# Altium schematic symbol library WE-PoEH.SchLib: 13 symbols
Pins are listed as number, name and electrical type; pins without a type are passive.

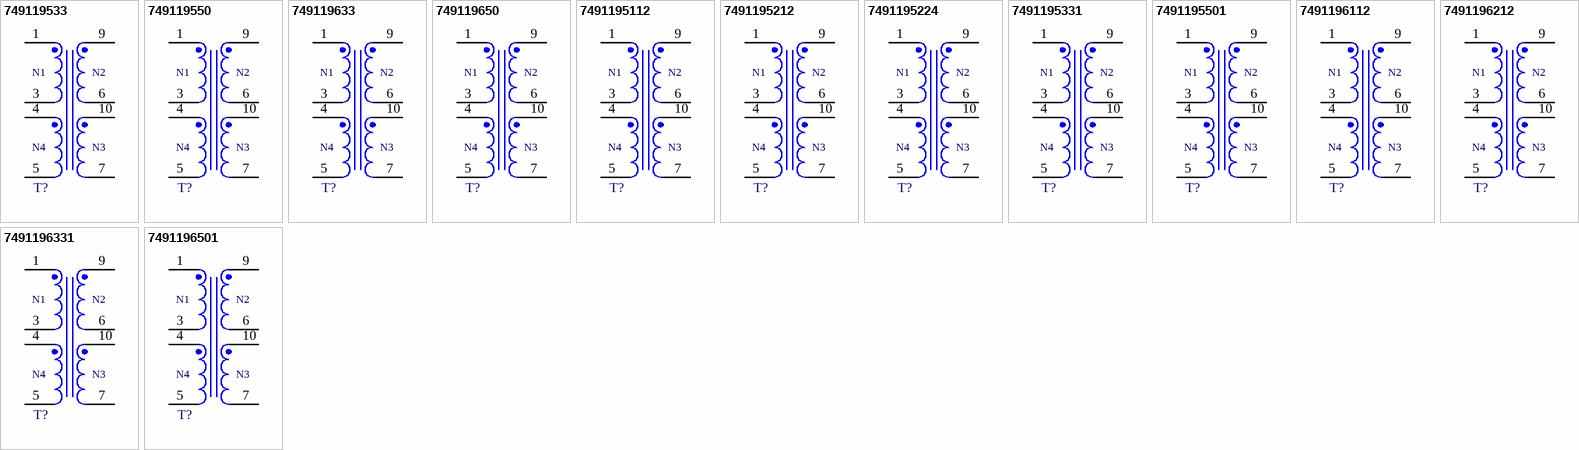
[diagram p0: symbols 749119533 to 7491196501]

## 749119533
designator T?, comment Ui = 33-57V, Uo1 = 3.3V/3.5A, Uo2 = 3.3V/3.5A  (value not drawn)
WE-PoEH Power over Ethernet High Power Transformer, SMT, EPQ13, Ui = 33-57V, Uo1 = 3.3V/3.5A, Uo2 = 3.3V/3.5A; Manufacturer Part Number: 749119533; Manufacturer: Wurth Elektronik; Auxiliary Voltage: 10V; Inductance: 54uH; Input Voltage: 33-57VDC; Insulation Test Voltage: 1500V; Leakage Inductance: 0.8uH; Output Current 1: 3.5A; Output Power: 23.1W; Output Voltage 1: 3.3V; Saturation Current: 3.2A; Switching Frequency: 200-400kHz; Turns Ratio: 8:1:1:3; Type: Flyback; Category: Transformers For DC-DC Converter; Match Code: WE-PoEH; ComponentLink1Description: Website Link; ComponentLink1URL: https://www.we-online.com/redexpert/article/749119533?ad; ComponentLink2Description: Datasheet Link; ComponentLink2URL: https://www.we-online.com/redexpert/spec/749119533?ad; Mount: Surface Mount; Operating Temperature Max: 125°C; Operating Temperature Min: -40°C; Packaging: Tape and Reel; Case/Size Code: EPQ13; Length: 14mm; Width: 12.77mm; Height: 14.5mm; Output Current 2: 3.5A; Output Voltage 2: 3.3V
footprint WE-PoEH_EPQ13
simulation model 749119533
pins: 1, 3, 4, 5, 6, 7, 9, 10
text: N1; N2; N4; N3

## 749119550
designator T?, comment Ui = 33-57V, Uo1 = 5V/3A, Uo2 = 5V/3A  (value not drawn)
WE-PoEH Power over Ethernet High Power Transformer, SMT, EPQ13, Ui = 33-57V, Uo1 = 5V/3A, Uo2 = 5V/3A; Manufacturer Part Number: 749119550; Manufacturer: Wurth Elektronik; Auxiliary Voltage: 10V; Inductance: 48uH; Input Voltage: 33-57VDC; Insulation Test Voltage: 1500V; Leakage Inductance: 0.7uH; Output Current 1: 3A; Output Power: 30W; Output Voltage 1: 5V; Saturation Current: 3.6A; Switching Frequency: 200-400kHz; Turns Ratio: 5.33:1:1:2; Type: Flyback; Category: Transformers For DC-DC Converter; Match Code: WE-PoEH; ComponentLink1Description: Website Link; ComponentLink1URL: https://www.we-online.com/redexpert/article/749119550?ad; ComponentLink2Description: Datasheet Link; ComponentLink2URL: https://www.we-online.com/redexpert/spec/749119550?ad; Mount: Surface Mount; Operating Temperature Max: 125°C; Operating Temperature Min: -40°C; Packaging: Tape and Reel; Case/Size Code: EPQ13; Length: 14mm; Width: 12.77mm; Height: 14.5mm; Output Current 2: 3A; Output Voltage 2: 5V
footprint WE-PoEH_EPQ13
simulation model 749119550
pins: 1, 3, 4, 5, 6, 7, 9, 10
text: N1; N2; N4; N3

## 749119633
designator T?, comment Ui = 33-57V, Uo1 = 3.3V/8A, Uo2 = 3.3V/8A  (value not drawn)
WE-PoEH Power over Ethernet High Power Transformer, SMT, EPQ13, Ui = 33-57V, Uo1 = 3.3V/8A, Uo2 = 3.3V/8A; Manufacturer Part Number: 749119633; Manufacturer: Wurth Elektronik; Auxiliary Voltage: 10V; Inductance: 100uH; Input Voltage: 33-57VDC; Insulation Test Voltage: 1500V; Leakage Inductance: 0.5uH; Output Current 1: 8A; Output Power: 52.8W; Output Voltage 1: 3.3V; Saturation Current: 1A; Switching Frequency: 200-400kHz; Turns Ratio: 6:1:1:3; Type: Forward; Category: Transformers For DC-DC Converter; Match Code: WE-PoEH; ComponentLink1Description: Website Link; ComponentLink1URL: https://www.we-online.com/redexpert/article/749119633?ad; ComponentLink2Description: Datasheet Link; ComponentLink2URL: https://www.we-online.com/redexpert/spec/749119633?ad; Mount: Surface Mount; Operating Temperature Max: 125°C; Operating Temperature Min: -40°C; Packaging: Tape and Reel; Case/Size Code: EPQ13; Length: 14mm; Width: 12.77mm; Height: 14.5mm; Output Current 2: 8A; Output Voltage 2: 3.3V
footprint WE-PoEH_EPQ13
simulation model 749119633
pins: 1, 3, 4, 5, 6, 7, 9, 10
text: N1; N2; N4; N3

## 749119650
designator T?, comment Ui = 33-57V, Uo1 = 5V/7A, Uo2 = 5V/7A  (value not drawn)
WE-PoEH Power over Ethernet High Power Transformer, SMT, EPQ13, Ui = 33-57V, Uo1 = 5V/7A, Uo2 = 5V/7A; Manufacturer Part Number: 749119650; Manufacturer: Wurth Elektronik; Auxiliary Voltage: 10V; Inductance: 100uH; Input Voltage: 33-57VDC; Insulation Test Voltage: 1500V; Leakage Inductance: 0.5uH; Output Current 1: 7A; Output Power: 70W; Output Voltage 1: 5V; Saturation Current: 1A; Switching Frequency: 200-400kHz; Turns Ratio: 4:1:1:2; Type: Forward; Category: Transformers For DC-DC Converter; Match Code: WE-PoEH; ComponentLink1Description: Website Link; ComponentLink1URL: https://www.we-online.com/redexpert/article/749119650?ad; ComponentLink2Description: Datasheet Link; ComponentLink2URL: https://www.we-online.com/redexpert/spec/749119650?ad; Mount: Surface Mount; Operating Temperature Max: 125°C; Operating Temperature Min: -40°C; Packaging: Tape and Reel; Case/Size Code: EPQ13; Length: 14mm; Width: 12.77mm; Height: 14.5mm; Output Current 2: 7A; Output Voltage 2: 5V
footprint WE-PoEH_EPQ13
simulation model 749119650
pins: 1, 3, 4, 5, 6, 7, 9, 10
text: N1; N2; N4; N3

## 7491195112
designator T?, comment Ui = 33-57V, Uo1 = 12V/1.5A, Uo2 = 12V/1.5A  (value not drawn)
WE-PoEH Power over Ethernet High Power Transformer, SMT, EPQ13, Ui = 33-57V, Uo1 = 12V/1.5A, Uo2 = 12V/1.5A; Manufacturer Part Number: 7491195112; Manufacturer: Wurth Elektronik; Auxiliary Voltage: 12V; Inductance: 41uH; Input Voltage: 33-57VDC; Insulation Test Voltage: 1500V; Leakage Inductance: 0.5uH; Output Current 1: 1.5A; Output Power: 36W; Saturation Current: 4.2A; Switching Frequency: 200-400kHz; Turns Ratio: 2.67:1:1:1; Type: Flyback; Category: Transformers For DC-DC Converter; Match Code: WE-PoEH; ComponentLink1Description: Website Link; ComponentLink1URL: https://www.we-online.com/redexpert/article/7491195112?ad; ComponentLink2Description: Datasheet Link; ComponentLink2URL: https://www.we-online.com/redexpert/spec/7491195112?ad; Mount: Surface Mount; Operating Temperature Max: 125°C; Operating Temperature Min: -40°C; Packaging: Tape and Reel; Case/Size Code: EPQ13; Length: 14mm; Width: 12.77mm; Height: 14.5mm; Output Current 2: 1.5A; Output Voltage 1: 12V; Output Voltage 2: 12V
footprint WE-PoEH_EPQ13
simulation model 7491195112
pins: 1, 3, 4, 5, 6, 7, 9, 10
text: N1; N2; N4; N3

## 7491195212
designator T?, comment Ui = 9-57V, Uo1 = 12V/1A, Uo2 = 12V/1A  (value not drawn)
WE-PoEH Power over Ethernet High Power Transformer, SMT, EPQ13, Ui = 9-57V, Uo1 = 12V/1A, Uo2 = 12V/1A; Manufacturer Part Number: 7491195212; Manufacturer: Wurth Elektronik; Auxiliary Voltage: 10V; Inductance: 21uH; Input Voltage: 9-57VDC; Insulation Test Voltage: 1500V; Leakage Inductance: 0.3uH; Output Current 1: 1A; Output Power: 24W; Output Voltage 1: 12V; Saturation Current: 6.3A; Switching Frequency: 200-400kHz; Turns Ratio: 1.33:1:1:0.89; Type: Flyback; Category: Transformers For DC-DC Converter; Match Code: WE-PoEH; ComponentLink1Description: Website Link; ComponentLink1URL: https://www.we-online.com/redexpert/article/7491195212?ad; ComponentLink2Description: Datasheet Link; ComponentLink2URL: https://www.we-online.com/redexpert/spec/7491195212?ad; Mount: Surface Mount; Operating Temperature Max: 125°C; Operating Temperature Min: -40°C; Packaging: Tape and Reel; Case/Size Code: EPQ13; Length: 14mm; Width: 12.77mm; Height: 14.5mm; Output Current 2: 1A; Output Voltage 2: 12V
footprint WE-PoEH_EPQ13
simulation model 7491195212
pins: 1, 3, 4, 5, 6, 7, 9, 10
text: N1; N2; N4; N3

## 7491195224
designator T?, comment Ui = 9-57V, Uo1 = 24V/0.5A, Uo2 = 24V/0.5A  (value not drawn)
WE-PoEH Power over Ethernet High Power Transformer, SMT, EPQ13, Ui = 9-57V, Uo1 = 24V/0.5A, Uo2 = 24V/0.5A; Manufacturer Part Number: 7491195224; Manufacturer: Wurth Elektronik; Auxiliary Voltage: 10V; Inductance: 21uH; Input Voltage: 9-57VDC; Insulation Test Voltage: 1500V; Leakage Inductance: 1uH; Output Current 1: 0.5A; Output Power: 24W; Output Voltage 1: 24V; Saturation Current: 6.4A; Switching Frequency: 200-400kHz; Turns Ratio: 6:9:9:4; Type: Flyback; Category: Transformers For DC-DC Converter; Match Code: WE-PoEH; ComponentLink1Description: Website Link; ComponentLink1URL: https://www.we-online.com/redexpert/article/7491195224?ad; ComponentLink2Description: Datasheet Link; ComponentLink2URL: https://www.we-online.com/redexpert/spec/7491195224?ad; Mount: Surface Mount; Operating Temperature Max: 125°C; Operating Temperature Min: -40°C; Packaging: Tape and Reel; Case/Size Code: EPQ13; Length: 14mm; Width: 12.77mm; Height: 14.5mm; Output Current 2: 0.5A; Output Voltage 2: 24V
footprint WE-PoEH_EPQ13
simulation model 7491195224
pins: 1, 3, 4, 5, 6, 7, 9, 10
text: N1; N2; N4; N3

## 7491195331
designator T?, comment Ui = 9-57V, Uo1 = 3.3V/3.2A, Uo2 = 3.3V/3.2A  (value not drawn)
WE-PoEH Power over Ethernet High Power Transformer, SMT, EPQ13, Ui = 9-57V, Uo1 = 3.3V/3.2A, Uo2 = 3.3V/3.2A; Manufacturer Part Number: 7491195331; Manufacturer: Wurth Elektronik; Auxiliary Voltage: 10V; Inductance: 21uH; Input Voltage: 9-57VDC; Insulation Test Voltage: 1500V; Leakage Inductance: 0.3uH; Output Current 1: 3.2A; Output Power: 21.1W; Output Voltage 1: 3.3V; Saturation Current: 6.2A; Switching Frequency: 200-400kHz; Turns Ratio: 4:1:1:3; Type: Flyback; Category: Transformers For DC-DC Converter; Match Code: WE-PoEH; ComponentLink1Description: Website Link; ComponentLink1URL: https://www.we-online.com/redexpert/article/7491195331?ad; ComponentLink2Description: Datasheet Link; ComponentLink2URL: https://www.we-online.com/redexpert/spec/7491195331?ad; Mount: Surface Mount; Operating Temperature Max: 125°C; Operating Temperature Min: -40°C; Packaging: Tape and Reel; Case/Size Code: EPQ13; Length: 14mm; Width: 12.77mm; Height: 14.5mm; Output Current 2: 3.2A; Output Voltage 2: 3.3V
footprint WE-PoEH_EPQ13
simulation model 7491195331
pins: 1, 3, 4, 5, 6, 7, 9, 10
text: N1; N2; N4; N3

## 7491195501
designator T?, comment Ui = 9-57V, Uo1 = 5V/2.2A, Uo2 = 5V/2.2A  (value not drawn)
WE-PoEH Power over Ethernet High Power Transformer, SMT, EPQ13, Ui = 9-57V, Uo1 = 5V/2.2A, Uo2 = 5V/2.2A; Manufacturer Part Number: 7491195501; Manufacturer: Wurth Elektronik; Auxiliary Voltage: 10V; Inductance: 21uH; Input Voltage: 9-57VDC; Insulation Test Voltage: 1500V; Leakage Inductance: 0.3uH; Output Current 1: 2.2A; Output Power: 22W; Output Voltage 1: 5V; Saturation Current: 6.2A; Switching Frequency: 200-400kHz; Turns Ratio: 3:1:1:2; Type: Flyback; Category: Transformers For DC-DC Converter; Match Code: WE-PoEH; ComponentLink1Description: Website Link; ComponentLink1URL: https://www.we-online.com/redexpert/article/7491195501?ad; ComponentLink2Description: Datasheet Link; ComponentLink2URL: https://www.we-online.com/redexpert/spec/7491195501?ad; Mount: Surface Mount; Operating Temperature Max: 125°C; Operating Temperature Min: -40°C; Packaging: Tape and Reel; Case/Size Code: EPQ13; Length: 14mm; Width: 12.77mm; Height: 14.5mm; Output Current 2: 2.2A; Output Voltage 2: 5V
footprint WE-PoEH_EPQ13
simulation model 7491195501
pins: 1, 3, 4, 5, 6, 7, 9, 10
text: N1; N2; N4; N3

## 7491196112
designator T?, comment Ui = 33-57V, Uo1 = 12V/2.5A, Uo2 = 12V/2.5A  (value not drawn)
WE-PoEH Power over Ethernet High Power Transformer, SMT, EPQ13, Ui = 33-57V, Uo1 = 12V/2.5A, Uo2 = 12V/2.5A; Manufacturer Part Number: 7491196112; Manufacturer: Wurth Elektronik; Auxiliary Voltage: 10V; Inductance: 100uH; Input Voltage: 33-57VDC; Insulation Test Voltage: 1500V; Leakage Inductance: 0.5uH; Output Current 1: 2.5A; Output Power: 60W; Output Voltage 1: 12V; Saturation Current: 1A; Switching Frequency: 200-400kHz; Turns Ratio: 1.71:1:1:0.86; Type: Forward; Category: Transformers For DC-DC Converter; Match Code: WE-PoEH; ComponentLink1Description: Website Link; ComponentLink1URL: https://www.we-online.com/redexpert/article/7491196112?ad; ComponentLink2Description: Datasheet Link; ComponentLink2URL: https://www.we-online.com/redexpert/spec/7491196112?ad; Mount: Surface Mount; Operating Temperature Max: 125°C; Operating Temperature Min: -40°C; Packaging: Tape and Reel; Case/Size Code: EPQ13; Length: 14mm; Width: 12.77mm; Height: 14.5mm; Output Current 2: 2.5A; Output Voltage 2: 12V
footprint WE-PoEH_EPQ13
simulation model 7491196112
pins: 1, 3, 4, 5, 6, 7, 9, 10
text: N1; N2; N4; N3

## 7491196212
designator T?, comment Ui = 9-57V, Uo1 = 12V/1.6A, Uo2 = 12V/1.6A  (value not drawn)
WE-PoEH Power over Ethernet High Power Transformer, SMT, EPQ13, Ui = 9-57V, Uo1 = 12V/1.6A, Uo2 = 12V/1.6A; Manufacturer Part Number: 7491196212; Manufacturer: Wurth Elektronik; Auxiliary Voltage: 10V; Inductance: 128uH; Input Voltage: 9-57VDC; Insulation Test Voltage: 1500V; Leakage Inductance: 0.3uH; Output Current 1: 1.6A; Output Power: 38.4W; Output Voltage 1: 12V; Saturation Current: 0.3A; Switching Frequency: 200-400kHz; Turns Ratio: 0.47:1:1:0.82; Type: Forward; Category: Transformers For DC-DC Converter; Match Code: WE-PoEH; ComponentLink1Description: Website Link; ComponentLink1URL: https://www.we-online.com/redexpert/article/7491196212?ad; ComponentLink2Description: Datasheet Link; ComponentLink2URL: https://www.we-online.com/redexpert/spec/7491196212?ad; Mount: Surface Mount; Operating Temperature Max: 125°C; Operating Temperature Min: -40°C; Packaging: Tape and Reel; Case/Size Code: EPQ13; Length: 14mm; Width: 12.77mm; Height: 14.5mm; Output Current 2: 1.6A; Output Voltage 2: 12V
footprint WE-PoEH_EPQ13
simulation model 7491196212
pins: 1, 3, 4, 5, 6, 7, 9, 10
text: N1; N2; N4; N3

## 7491196331
designator T?, comment Ui = 9-57V, Uo1 = 3.3V/5.5A, Uo2 = 3.3V/5.5A  (value not drawn)
WE-PoEH Power over Ethernet High Power Transformer, SMT, EPQ13, Ui = 9-57V, Uo1 = 3.3V/5.5A, Uo2 = 3.3V/5.5A; Manufacturer Part Number: 7491196331; Manufacturer: Wurth Elektronik; Auxiliary Voltage: 10V; Inductance: 128uH; Input Voltage: 9-57VDC; Insulation Test Voltage: 1500V; Leakage Inductance: 0.5uH; Output Current 1: 5.5A; Output Power: 36.3W; Output Voltage 1: 3.3V; Saturation Current: 1.1A; Switching Frequency: 200-400kHz; Turns Ratio: 3.2:1:1:2.8; Type: Forward; Category: Transformers For DC-DC Converter; Match Code: WE-PoEH; ComponentLink1Description: Website Link; ComponentLink1URL: https://www.we-online.com/redexpert/article/7491196331?ad; ComponentLink2Description: Datasheet Link; ComponentLink2URL: https://www.we-online.com/redexpert/spec/7491196331?ad; Mount: Surface Mount; Operating Temperature Max: 125°C; Operating Temperature Min: -40°C; Packaging: Tape and Reel; Case/Size Code: EPQ13; Length: 14mm; Width: 12.77mm; Height: 14.5mm; Output Current 2: 5.5A; Output Voltage 2: 3.3V
footprint WE-PoEH_EPQ13
simulation model 7491196331
pins: 1, 3, 4, 5, 6, 7, 9, 10
text: N1; N2; N4; N3

## 7491196501
designator T?, comment Ui = 9-57V, Uo1 = 5V/3.5A, Uo2 = 5V/3.5A  (value not drawn)
WE-PoEH Power over Ethernet High Power Transformer, SMT, EPQ13, Ui = 9-57V, Uo1 = 5V/3.5A, Uo2 = 5V/3.5A; Manufacturer Part Number: 7491196501; Manufacturer: Wurth Elektronik; Auxiliary Voltage: 10V; Inductance: 128uH; Input Voltage: 9-57VDC; Insulation Test Voltage: 1500V; Leakage Inductance: 0.3uH; Output Current 1: 3.5A; Output Power: 35W; Output Voltage 1: 5V; Saturation Current: 0.3A; Switching Frequency: 200-400kHz; Turns Ratio: 1.14:1:1:2; Type: Forward; Category: Transformers For DC-DC Converter; Match Code: WE-PoEH; ComponentLink1Description: Website Link; ComponentLink1URL: https://www.we-online.com/redexpert/article/7491196501?ad; ComponentLink2Description: Datasheet Link; ComponentLink2URL: https://www.we-online.com/redexpert/spec/7491196501?ad; Mount: Surface Mount; Operating Temperature Max: 125°C; Operating Temperature Min: -40°C; Packaging: Tape and Reel; Case/Size Code: EPQ13; Length: 14mm; Width: 12.77mm; Height: 14.5mm; Output Current 2: 3.5A; Output Voltage 2: 5V
footprint WE-PoEH_EPQ13
simulation model 7491196501
pins: 1, 3, 4, 5, 6, 7, 9, 10
text: N1; N2; N4; N3